# Altium schematic symbol library SR1020-28QFN-TR.SchLib: 1 symbol
Pins are listed as number, name and electrical type; pins without a type are passive.

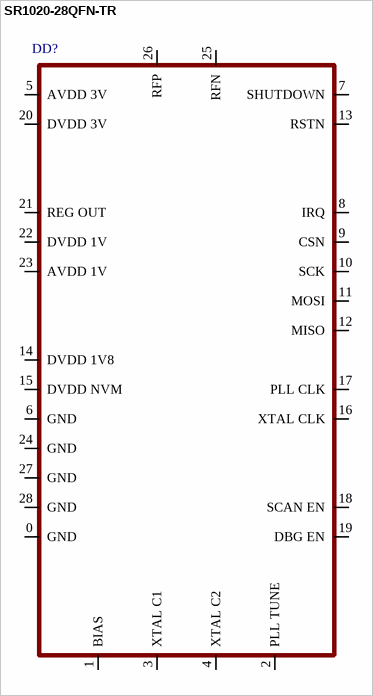
[diagram p0: symbol SR1020-28QFN-TR]

## SR1020-28QFN-TR
designator DD?
pins: 0 GND, 1 BIAS, 2 PLL TUNE, 3 XTAL C1, 4 XTAL C2, 5 AVDD 3V, 6 GND, 7 SHUTDOWN, 8 IRQ, 9 CSN, 10 SCK, 11 MOSI, 12 MISO, 13 RSTN, 14 DVDD 1V8, 15 DVDD NVM, 16 XTAL CLK, 17 PLL CLK, 18 SCAN EN, 19 DBG EN, 20 DVDD 3V, 21 REG OUT, 22 DVDD 1V, 23 AVDD 1V, 24 GND, 25 RFN, 26 RFP, 27 GND, 28 GND